# Altium footprint library qfn.PcbLib: 13 footprints
Each footprint in its own frame and in the unit in brackets; x right, y up, seen from the top. Pads: shape width x height; smd on the part's side, far side on the other; paste and mask are expansions set on the pad; w line width, h text height; cw(c..) or ccw(c..) is an arc to the next point about the centre after c.
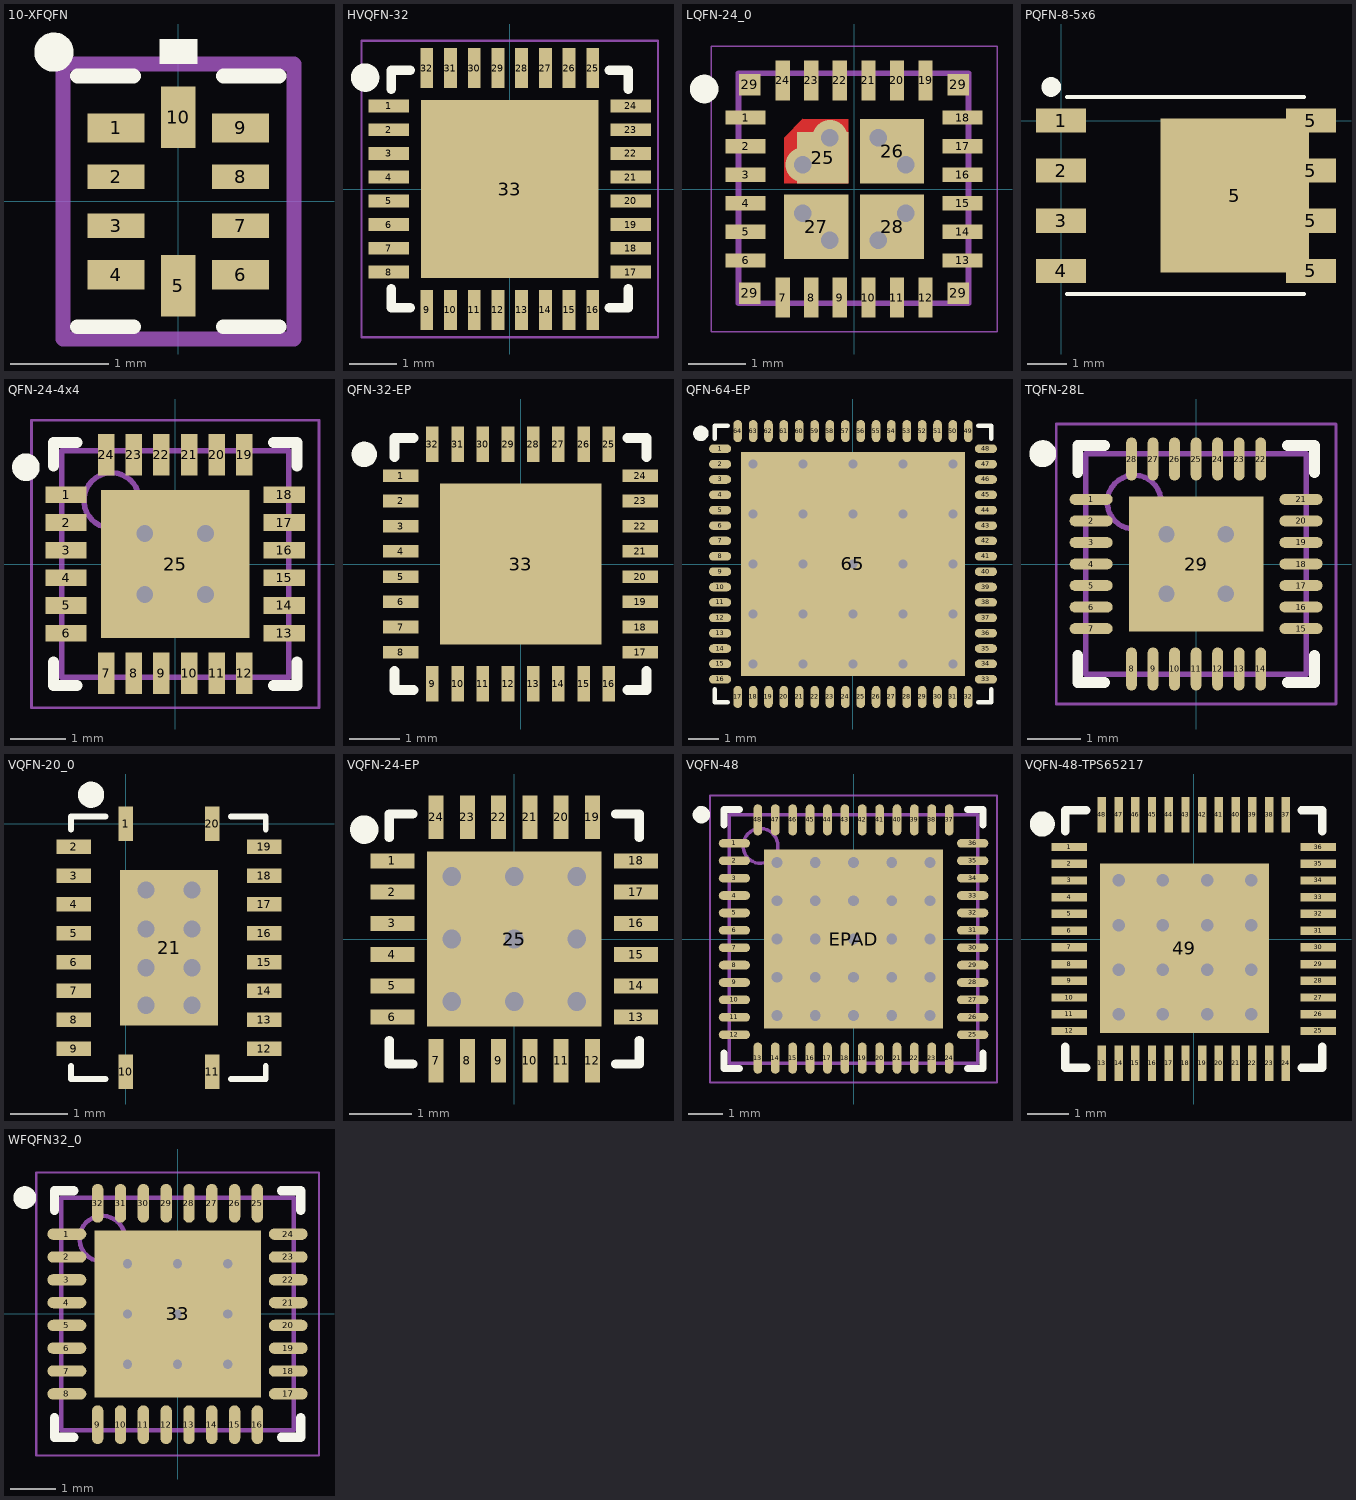
[diagram p0: the footprints below, top view; thin cyan lines are the x and y axes]

## 10-XFQFN [mm]
pads (10):
  rect 0.58x0.3 smd paste-0.15 mask+0.05: 1(-0.635,0.75) 4(-0.635,-0.75) 6(0.635,-0.75) 9(0.635,0.75)
  rect 0.58x0.25 smd mask+0.05: 2(-0.635,0.25) 3(-0.635,-0.25) 7(0.635,-0.25) 8(0.635,0.25)
  rect 0.35x0.63 smd mask+0.05: 5(0,-0.86) 10(0,0.86)
Top Overlay:
  circle w0.2: c-1.27,1.524 r0.1
  region: 0.191,1.404 -0.191,1.404 -0.191,1.658 0.191,1.658
  lines w0.152: -1.029,-1.279 -0.459,-1.279 ; -1.029,1.279 -0.459,1.279 ; 0.459,-1.279 1.029,-1.279 ; 0.459,1.279 1.029,1.279
Top Paste:
  region: -0.37,0.875 -0.9,0.875 -0.9,0.625 -0.37,0.625
  region: -0.37,0.375 -0.9,0.375 -0.9,0.125 -0.37,0.125
  region: -0.37,-0.125 -0.9,-0.125 -0.9,-0.375 -0.37,-0.375
  region: -0.37,-0.625 -0.9,-0.625 -0.9,-0.875 -0.37,-0.875
  region: 0.125,-0.595 -0.125,-0.595 -0.125,-1.125 0.125,-1.125
  region: 0.9,-0.625 0.37,-0.625 0.37,-0.875 0.9,-0.875
  region: 0.9,-0.125 0.37,-0.125 0.37,-0.375 0.9,-0.375
  region: 0.9,0.375 0.37,0.375 0.37,0.125 0.9,0.125
  region: 0.9,0.875 0.37,0.875 0.37,0.625 0.9,0.625
  region: 0.125,1.125 -0.125,1.125 -0.125,0.595 0.125,0.595
Top Solder:
  region: 0.975,0.45 0.295,0.45 0.295,0.05 0.975,0.05
  region: -0.295,0.95 -0.975,0.95 -0.975,0.55 -0.295,0.55
  region: -0.295,0.45 -0.975,0.45 -0.975,0.05 -0.295,0.05
  region: -0.295,-0.05 -0.975,-0.05 -0.975,-0.45 -0.295,-0.45
  region: -0.295,-0.55 -0.975,-0.55 -0.975,-0.95 -0.295,-0.95
  region: 0.2,-0.52 -0.2,-0.52 -0.2,-1.2 0.2,-1.2
  region: 0.975,-0.55 0.295,-0.55 0.295,-0.95 0.975,-0.95
  region: 0.975,-0.05 0.295,-0.05 0.295,-0.45 0.975,-0.45
  region: 0.975,0.95 0.295,0.95 0.295,0.55 0.975,0.55
  region: 0.2,1.2 -0.2,1.2 -0.2,0.52 0.2,0.52
Mechanical 15:
  lines w0.152: -1.179,-1.404 -1.179,1.404 1.179,1.404 1.179,-1.404 -1.179,-1.404
3D body "RUG0010A.stp": height 0.4, standoff 0, extent -0.75,-1 0.75,1

## HVQFN-32 [mm]
pads (33):
  rect 0.85x0.27 smd mask+0.05: 1(-2.55,1.75) 2(-2.55,1.25) 3(-2.55,0.75) 4(-2.55,0.25) 5(-2.55,-0.25) 6(-2.55,-0.75) 7(-2.55,-1.25) 8(-2.55,-1.75) 17(2.55,-1.75) 18(2.55,-1.25) 19(2.55,-0.75) 20(2.55,-0.25) 21(2.55,0.25) 22(2.55,0.75) 23(2.55,1.25) 24(2.55,1.75)
  rect 0.27x0.85 smd mask+0.05: 9(-1.75,-2.55) 10(-1.25,-2.55) 11(-0.75,-2.55) 12(-0.25,-2.55) 13(0.25,-2.55) 14(0.75,-2.55) 15(1.25,-2.55) 16(1.75,-2.55) 25(1.75,2.55) 26(1.25,2.55) 27(0.75,2.55) 28(0.25,2.55) 29(-0.25,2.55) 30(-0.75,2.55) 31(-1.25,2.55) 32(-1.75,2.55)
  rect 3.75x3.75 smd mask+0.075: 33(0,0)
Top Overlay:
  circle w0.3: c-3.05,2.35 r0.15
  lines w0.2: -2.5,-2.1 -2.5,-2.5 -2.1,-2.5 ; -2.5,2.1 -2.5,2.5 -2.1,2.5 ; 2.1,-2.5 2.5,-2.5 2.5,-2.1 ; 2.1,2.5 2.5,2.5 2.5,2.1
Mechanical 15:
  lines w0.05: -0.25,0 0.25,0 ; 0,-0.25 0,0.25 ; -3.125,-3.125 3.125,-3.125 3.125,3.125 -3.125,3.125 -3.125,-3.125
3D body: height 0.85, standoff 0, extent -2.5,-2.5 2.5,2.5

## LQFN-24_0 [mm]
pads (32):
  rect 0.7x0.25 smd mask+0.05: 1(-1.9,1.25) 2(-1.9,0.75) 3(-1.9,0.25) 4(-1.9,-0.25) 5(-1.9,-0.75) 6(-1.9,-1.25) 13(1.9,-1.25) 14(1.9,-0.75) 15(1.9,-0.25) 16(1.9,0.25) 17(1.9,0.75) 18(1.9,1.25)
  rect 0.25x0.7 smd mask+0.05: 7(-1.25,-1.9) 8(-0.75,-1.9) 9(-0.25,-1.9) 10(0.25,-1.9) 11(0.75,-1.9) 12(1.25,-1.9) 19(1.25,1.9) 20(0.75,1.9) 21(0.25,1.9) 22(-0.25,1.9) 23(-0.75,1.9) 24(-1.25,1.9)
  rect 0.9x0.9 smd mask+0: 25(-0.55,0.55)
  rect 1.125x1.125 smd: 26(0.663,0.663) 27(-0.663,-0.663) 28(0.663,-0.663)
  rect 0.375x0.375 smd mask+0.05: 29(-1.825,-1.825) 29(-1.825,1.825) 29(1.825,-1.825) 29(1.825,1.825)
via -0.9,0.425 diameter 0.61 hole 0.305
via -0.425,0.9 diameter 0.61 hole 0.305
via 0.9,0.425 diameter 0.61 hole 0.305
via -0.9,-0.425 diameter 0.61 hole 0.305
via -0.425,-0.9 diameter 0.61 hole 0.305
via 0.425,-0.9 diameter 0.61 hole 0.305
via 0.9,-0.425 diameter 0.61 hole 0.305
via 0.425,0.9 diameter 0.61 hole 0.305
Top Layer:
  region: -1.225,0.1 -0.1,0.1 -0.1,1.225 -0.9,1.225 -1.225,0.9
Top Overlay:
  circle w0.25: c-2.625,1.75 r0.125
Mechanical 13:
  lines w0.1: -2.025,2 -2.025,-2 2,-2 2,2.025 -2.025,2.025
Mechanical 15:
  lines w0.025: -2.5,-2.5 -2.5,2.5 2.5,2.5 2.5,-2.5 -2.5,-2.5
3D body: height 0.94, standoff 0, extent -2.013,-2.013 2.013,2.013

## PQFN-8-5x6 [mm]
pads (9):
  rect 1.27x0.61 smd: 1(0,0) 2(0,-1.27) 3(0,-2.54) 4(0,-3.81) 5(6.33,-3.81) 5(6.33,-2.54) 5(6.33,-1.27) 5(6.33,0)
  rect 3.75x3.91 smd: 5(4.4,-1.9)
Top Overlay:
  circle w0.25: c-0.25,0.85 r0.125
  lines w0.1: 0.15,-4.4 6.15,-4.4 ; 0.15,0.6 6.15,0.6
3D body: height 1.1, standoff 0, extent 0.15,-4.4 6.15,0.6

## QFN-24-4x4 [mm] "QFN, 24-Leads, Body 4.00x4.00mm, Pitch 0.50mm, Thermal Pad 2.68x2.68mm, IPC Medium Density"
height 0.8
pads (25):
  rect 0.75x0.3 smd mask+0.05: 1(-1.975,1.25) 2(-1.975,0.75) 3(-1.975,0.25) 4(-1.975,-0.25) 5(-1.975,-0.75) 6(-1.975,-1.25) 13(1.975,-1.25) 14(1.975,-0.75) 15(1.975,-0.25) 16(1.975,0.25) 17(1.975,0.75) 18(1.975,1.25)
  rect 0.3x0.75 smd mask+0.05: 7(-1.25,-1.975) 8(-0.75,-1.975) 9(-0.25,-1.975) 10(0.25,-1.975) 11(0.75,-1.975) 12(1.25,-1.975) 19(1.25,1.975) 20(0.75,1.975) 21(0.25,1.975) 22(-0.25,1.975) 23(-0.75,1.975) 24(-1.25,1.975)
  rect 2.68x2.68 smd: 25(0,0)
via 0.55,-0.55 diameter 0.61 hole 0.305
via -0.55,-0.55 diameter 0.61 hole 0.305
via 0.55,0.55 diameter 0.61 hole 0.305
via -0.55,0.55 diameter 0.61 hole 0.305
Top Overlay:
  circle w0.25: c-2.7,1.75 r0.125
  lines w0.2: -2.2,-1.775 -2.2,-2.2 -1.775,-2.2 ; -2.2,1.775 -2.2,2.2 -1.775,2.2 ; 1.775,-2.2 2.2,-2.2 2.2,-1.775 ; 1.775,2.2 2.2,2.2 2.2,1.775
Mechanical 13:
  circle w0.1: c-1.15,1.15 r0.5
  lines w0.1: -2.05,-2.05 2.05,-2.05 2.05,2.05 -2.05,2.05 -2.05,-2.05
Mechanical 15:
  lines w0.05: -2.6,-2.6 2.6,-2.6 2.6,2.6 -2.6,2.6 -2.6,-2.6
  lines w0.1: -0.5,0 0.5,0 ; 0,-0.5 0,0.5
3D body: height 0.8, standoff 0, extent -2.05,-2.05 2.05,2.05

## QFN-32-EP [mm]
pads (33):
  rect 0.7x0.25 smd mask+0.05: 1(-2.375,1.75) 2(-2.375,1.25) 3(-2.375,0.75) 4(-2.375,0.25) 5(-2.375,-0.25) 6(-2.375,-0.75) 7(-2.375,-1.25) 8(-2.375,-1.75) 17(2.375,-1.75) 18(2.375,-1.25) 19(2.375,-0.75) 20(2.375,-0.25) 21(2.375,0.25) 22(2.375,0.75) 23(2.375,1.25) 24(2.375,1.75)
  rect 0.25x0.7 smd mask+0.05: 9(-1.75,-2.375) 10(-1.25,-2.375) 11(-0.75,-2.375) 12(-0.25,-2.375) 13(0.25,-2.375) 14(0.75,-2.375) 15(1.25,-2.375) 16(1.75,-2.375) 25(1.75,2.375) 26(1.25,2.375) 27(0.75,2.375) 28(0.25,2.375) 29(-0.25,2.375) 30(-0.75,2.375) 31(-1.25,2.375) 32(-1.75,2.375)
  rect 3.2x3.2 smd: 33(0,0)
Top Overlay:
  circle w0.254: c-3.1,2.175 r0.125
  lines w0.2: -2.5,-2.125 -2.5,-2.5 -2.125,-2.5 ; -2.5,2.125 -2.5,2.5 -2.125,2.5 ; 2.125,-2.5 2.5,-2.5 2.5,-2.125 ; 2.125,2.5 2.5,2.5 2.5,2.125

## QFN-64-EP [mm]
pads (65):
  oval 0.72x0.28 smd mask+0.05: 1(-4.325,3.75) 2(-4.325,3.25) 3(-4.325,2.75) 4(-4.325,2.25) 5(-4.325,1.75) 6(-4.325,1.25) 7(-4.325,0.75) 8(-4.325,0.25) 9(-4.325,-0.25) 10(-4.325,-0.75) 11(-4.325,-1.25) 12(-4.325,-1.75) 13(-4.325,-2.25) 14(-4.325,-2.75) 15(-4.325,-3.25) 16(-4.325,-3.75) 33(4.325,-3.75) 34(4.325,-3.25) 35(4.325,-2.75) 36(4.325,-2.25) 37(4.325,-1.75) 38(4.325,-1.25) 39(4.325,-0.75) 40(4.325,-0.25) 41(4.325,0.25) 42(4.325,0.75) 43(4.325,1.25) 44(4.325,1.75) 45(4.325,2.25) 46(4.325,2.75) 47(4.325,3.25) 48(4.325,3.75)
  oval 0.28x0.72 smd mask+0.05: 17(-3.75,-4.325) 18(-3.25,-4.325) 19(-2.75,-4.325) 20(-2.25,-4.325) 21(-1.75,-4.325) 22(-1.25,-4.325) 23(-0.75,-4.325) 24(-0.25,-4.325) 25(0.25,-4.325) 26(0.75,-4.325) 27(1.25,-4.325) 28(1.75,-4.325) 29(2.25,-4.325) 30(2.75,-4.325) 31(3.25,-4.325) 32(3.75,-4.325) 49(3.75,4.325) 50(3.25,4.325) 51(2.75,4.325) 52(2.25,4.325) 53(1.75,4.325) 54(1.25,4.325) 55(0.75,4.325) 56(0.25,4.325) 57(-0.25,4.325) 58(-0.75,4.325) 59(-1.25,4.325) 60(-1.75,4.325) 61(-2.25,4.325) 62(-2.75,4.325) 63(-3.25,4.325) 64(-3.75,4.325)
  rect 7.3x7.3 smd: 65(0,0)
via 0,1.625 diameter 0.6 hole 0.3
via -1.625,1.625 diameter 0.6 hole 0.3
via -1.625,0 diameter 0.6 hole 0.3
via -1.625,-1.625 diameter 0.6 hole 0.3
via 0,0 diameter 0.6 hole 0.3
via 0,-1.625 diameter 0.6 hole 0.3
via 1.625,-1.625 diameter 0.6 hole 0.3
via 1.625,0 diameter 0.6 hole 0.3
via 1.625,1.625 diameter 0.6 hole 0.3
via -3.25,-1.625 diameter 0.6 hole 0.3
via -3.25,1.625 diameter 0.6 hole 0.3
via -1.625,3.25 diameter 0.6 hole 0.3
via 1.625,3.25 diameter 0.6 hole 0.3
via 3.25,1.625 diameter 0.6 hole 0.3
via 3.25,-1.625 diameter 0.6 hole 0.3
via 1.625,-3.25 diameter 0.6 hole 0.3
via -1.625,-3.25 diameter 0.6 hole 0.3
via 0,-3.25 diameter 0.6 hole 0.3
via 0,3.25 diameter 0.6 hole 0.3
via 3.25,0 diameter 0.6 hole 0.3
via -3.25,0 diameter 0.6 hole 0.3
via -3.25,-3.25 diameter 0.6 hole 0.3
via 3.25,-3.25 diameter 0.6 hole 0.3
via 3.25,3.25 diameter 0.6 hole 0.3
via -3.25,3.25 diameter 0.6 hole 0.3
Top Overlay:
  circle w0.25: c-4.95,4.25 r0.125
  lines w0.15: -4.5,-4.075 -4.5,-4.5 -4.075,-4.5 ; -4.5,4.075 -4.5,4.5 -4.075,4.5 ; 4.075,-4.5 4.5,-4.5 4.5,-4.075 ; 4.075,4.5 4.5,4.5 4.5,4.075
3D body: height 0.85, standoff 0, extent -4.5,-4.5 4.5,4.5

## TQFN-28L [mm] "QFN, 28-Leads, Body 4.00x4.00mm, Pitch 0.40mm, Thermal Pad 2.70x2.70mm, IPC Medium Density"
height 0.8
pads (29):
  oval 0.8x0.2 smd: 1(-1.95,1.2) 2(-1.95,0.8) 3(-1.95,0.4) 4(-1.95,0) 5(-1.95,-0.4) 6(-1.95,-0.8) 7(-1.95,-1.2) 15(1.95,-1.2) 16(1.95,-0.8) 17(1.95,-0.4) 18(1.95,0) 19(1.95,0.4) 20(1.95,0.8) 21(1.95,1.2)
  oval 0.2x0.8 smd: 8(-1.2,-1.95) 9(-0.8,-1.95) 10(-0.4,-1.95) 11(0,-1.95) 12(0.4,-1.95) 13(0.8,-1.95) 14(1.2,-1.95) 22(1.2,1.95) 23(0.8,1.95) 24(0.4,1.95) 25(0,1.95) 26(-0.4,1.95) 27(-0.8,1.95) 28(-1.2,1.95)
  rect 2.5x2.5 smd: 29(0,0)
via 0.55,-0.55 diameter 0.61 hole 0.305
via -0.55,-0.55 diameter 0.61 hole 0.305
via 0.55,0.55 diameter 0.61 hole 0.305
via -0.55,0.55 diameter 0.61 hole 0.305
Top Overlay:
  circle w0.25: c-2.85,2.05 r0.125
  lines w0.2: -2.2,-1.7 -2.2,-2.2 -1.7,-2.2 ; -2.2,1.7 -2.2,2.2 -1.7,2.2 ; 1.7,-2.2 2.2,-2.2 2.2,-1.7 ; 1.7,2.2 2.2,2.2 2.2,1.7
Mechanical 13:
  circle w0.1: c-1.15,1.15 r0.5
  lines w0.1: -2.05,-2.05 2.05,-2.05 2.05,2.05 -2.05,2.05 -2.05,-2.05
Mechanical 15:
  lines w0.05: -2.6,-2.6 2.6,-2.6 2.6,2.6 -2.6,2.6 -2.6,-2.6
  lines w0.1: -0.5,0 0.5,0 ; 0,-0.5 0,0.5
3D body: height 0.8, standoff 0, extent -2.05,-2.05 2.05,2.05

## VQFN-20_0 [mm]
pads (21):
  rect 0.25x0.6 smd mask+0.07: 1(0,0) 10(0,-4.3) 11(1.5,-4.3) 20(1.5,0)
  rect 0.6x0.25 smd mask+0.07: 2(-0.9,-0.4) 3(-0.9,-0.9) 4(-0.9,-1.4) 5(-0.9,-1.9) 6(-0.9,-2.4) 7(-0.9,-2.9) 8(-0.9,-3.4) 9(-0.9,-3.9) 12(2.4,-3.9) 13(2.4,-3.4) 14(2.4,-2.9) 15(2.4,-2.4) 16(2.4,-1.9) 17(2.4,-1.4) 18(2.4,-0.9) 19(2.4,-0.4)
  rect 1.7x2.7 smd mask+0.07: 21(0.75,-2.15)
via 0.35,-1.15 diameter 0.55 hole 0.3
via 0.35,-1.825 diameter 0.55 hole 0.3
via 0.35,-2.5 diameter 0.55 hole 0.3
via 1.15,-3.15 diameter 0.55 hole 0.3
via 0.35,-3.15 diameter 0.55 hole 0.3
via 1.15,-2.5 diameter 0.55 hole 0.3
via 1.15,-1.825 diameter 0.55 hole 0.3
via 1.15,-1.15 diameter 0.55 hole 0.3
Top Overlay:
  circle w0.254: c-0.6,0.5 r0.1
  lines w0.1: -0.95,-4.2 -0.95,-4.425 -0.35,-4.425 ; -0.95,-0.1 -0.95,0.125 -0.35,0.125 ; 1.825,-4.425 2.425,-4.425 2.425,-4.2 ; 1.825,0.125 2.425,0.125 2.425,-0.1

## VQFN-24-EP [mm]
pads (25):
  rect 0.7x0.24 smd mask+0.065: 1(-1.95,1.25) 2(-1.95,0.75) 3(-1.95,0.25) 4(-1.95,-0.25) 5(-1.95,-0.75) 6(-1.95,-1.25) 13(1.95,-1.25) 14(1.95,-0.75) 15(1.95,-0.25) 16(1.95,0.25) 17(1.95,0.75) 18(1.95,1.25)
  rect 0.24x0.7 smd mask+0.065: 7(-1.25,-1.95) 8(-0.75,-1.95) 9(-0.25,-1.95) 10(0.25,-1.95) 11(0.75,-1.95) 12(1.25,-1.95) 19(1.25,1.95) 20(0.75,1.95) 21(0.25,1.95) 22(-0.25,1.95) 23(-0.75,1.95) 24(-1.25,1.95)
  rect 2.8x2.8 smd mask+0.065: 25(0,0)
via 0,1 diameter 0.5 hole 0.3
via 0,0 diameter 0.5 hole 0.3
via 1,0 diameter 0.5 hole 0.3
via 0,-1 diameter 0.5 hole 0.3
via -1,0 diameter 0.5 hole 0.3
via 1,1 diameter 0.5 hole 0.3
via -1,1 diameter 0.5 hole 0.3
via -1,-1 diameter 0.5 hole 0.3
via 1,-1 diameter 0.5 hole 0.3
Top Overlay:
  circle w0.254: c-2.4,1.75 r0.1
  lines w0.15: -2,-1.625 -2,-2 -1.625,-2 ; -2,1.625 -2,2 -1.625,2 ; 1.625,-2 2,-2 2,-1.625 ; 1.625,2 2,2 2,1.625
3D body: height 1, standoff 0, extent -2,-2 2,2

## VQFN-48 [mm] "QFN, 48-Leads, Body 7.00x7.00mm, Pitch 0.50mm, Thermal Pad 5.15x5.15mm, IPC Medium Density"
height 1
pads (57):
  oval 0.9x0.25 smd: 1(-3.425,2.75) 2(-3.425,2.25) 3(-3.425,1.75) 4(-3.425,1.25) 5(-3.425,0.75) 6(-3.425,0.25) 7(-3.425,-0.25) 8(-3.425,-0.75) 9(-3.425,-1.25) 10(-3.425,-1.75) 11(-3.425,-2.25) 12(-3.425,-2.75) 25(3.425,-2.75) 26(3.425,-2.25) 27(3.425,-1.75) 28(3.425,-1.25) 29(3.425,-0.75) 30(3.425,-0.25) 31(3.425,0.25) 32(3.425,0.75) 33(3.425,1.25) 34(3.425,1.75) 35(3.425,2.25) 36(3.425,2.75)
  oval 0.25x0.9 smd: 13(-2.75,-3.425) 14(-2.25,-3.425) 15(-1.75,-3.425) 16(-1.25,-3.425) 17(-0.75,-3.425) 18(-0.25,-3.425) 19(0.25,-3.425) 20(0.75,-3.425) 21(1.25,-3.425) 22(1.75,-3.425) 23(2.25,-3.425) 24(2.75,-3.425) 37(2.75,3.425) 38(2.25,3.425) 39(1.75,3.425) 40(1.25,3.425) 41(0.75,3.425) 42(0.25,3.425) 43(-0.25,3.425) 44(-0.75,3.425) 45(-1.25,3.425) 46(-1.75,3.425) 47(-2.25,3.425) 48(-2.75,3.425)
  rect 0x0 smd: 49(-0.85,0) 50(-0.35,0) 51(0,0.85) 52(0,0.35) 53(0.85,0) 54(0.35,0) 55(0,-0.85) 56(0,-0.35)
  rect 5.15x5.15 smd: EPAD(0,0)
via 2.2,-2.2 diameter 0.61 hole 0.305
via 1.1,-2.2 diameter 0.61 hole 0.305
via 0,-2.2 diameter 0.61 hole 0.305
via -1.1,-2.2 diameter 0.61 hole 0.305
via -2.2,-2.2 diameter 0.61 hole 0.305
via 2.2,-1.1 diameter 0.61 hole 0.305
via 1.1,-1.1 diameter 0.61 hole 0.305
via 0,-1.1 diameter 0.61 hole 0.305
via -1.1,-1.1 diameter 0.61 hole 0.305
via -2.2,-1.1 diameter 0.61 hole 0.305
via 2.2,0 diameter 0.61 hole 0.305
via 1.1,0 diameter 0.61 hole 0.305
via 0,0 diameter 0.61 hole 0.305
via -1.1,0 diameter 0.61 hole 0.305
via -2.2,0 diameter 0.61 hole 0.305
via 2.2,1.1 diameter 0.61 hole 0.305
via 1.1,1.1 diameter 0.61 hole 0.305
via 0,1.1 diameter 0.61 hole 0.305
via -1.1,1.1 diameter 0.61 hole 0.305
via -2.2,1.1 diameter 0.61 hole 0.305
via 2.2,2.2 diameter 0.61 hole 0.305
via 1.1,2.2 diameter 0.61 hole 0.305
via 0,2.2 diameter 0.61 hole 0.305
via -1.1,2.2 diameter 0.61 hole 0.305
via -2.2,2.2 diameter 0.61 hole 0.305
Top Overlay:
  circle w0.25: c-4.375,3.575 r0.125
  lines w0.2: -3.725,-3.275 -3.725,-3.725 -3.275,-3.725 ; -3.725,3.275 -3.725,3.725 -3.275,3.725 ; 3.275,-3.725 3.725,-3.725 3.725,-3.275 ; 3.275,3.725 3.725,3.725 3.725,3.275
Mechanical 13:
  circle w0.1: c-2.675,2.675 r0.5
  lines w0.1: -3.575,-3.575 3.575,-3.575 3.575,3.575 -3.575,3.575 -3.575,-3.575
Mechanical 15:
  lines w0.05: -4.125,-4.125 4.125,-4.125 4.125,4.125 -4.125,4.125 -4.125,-4.125
  lines w0.1: -0.5,0 0.5,0 ; 0,-0.5 0,0.5
3D body: height 1, standoff 0.08, extent -3.575,-3.575 3.575,3.575

## VQFN-48-TPS65217 [mm]
pads (49):
  rect 0.85x0.2 smd mask+0.05: 1(-2.975,2.2) 2(-2.975,1.8) 3(-2.975,1.4) 4(-2.975,1) 5(-2.975,0.6) 6(-2.975,0.2) 7(-2.975,-0.2) 8(-2.975,-0.6) 9(-2.975,-1) 10(-2.975,-1.4) 11(-2.975,-1.8) 12(-2.975,-2.2) 25(2.975,-2.2) 26(2.975,-1.8) 27(2.975,-1.4) 28(2.975,-1) 29(2.975,-0.6) 30(2.975,-0.2) 31(2.975,0.2) 32(2.975,0.6) 33(2.975,1) 34(2.975,1.4) 35(2.975,1.8) 36(2.975,2.2)
  rect 0.2x0.85 smd mask+0.05: 13(-2.2,-2.975) 14(-1.8,-2.975) 15(-1.4,-2.975) 16(-1,-2.975) 17(-0.6,-2.975) 18(-0.2,-2.975) 19(0.2,-2.975) 20(0.6,-2.975) 21(1,-2.975) 22(1.4,-2.975) 23(1.8,-2.975) 24(2.2,-2.975) 37(2.2,2.975) 38(1.8,2.975) 39(1.4,2.975) 40(1,2.975) 41(0.6,2.975) 42(0.2,2.975) 43(-0.2,2.975) 44(-0.6,2.975) 45(-1,2.975) 46(-1.4,2.975) 47(-1.8,2.975) 48(-2.2,2.975)
  rect 4.05x4.05 smd mask+0.075: 49(-0.225,-0.225)
via -1.8,1.4 diameter 0.6 hole 0.3
via -1.8,-1.8 diameter 0.6 hole 0.3
via 1.375,1.4 diameter 0.6 hole 0.3
via 1.375,-1.8 diameter 0.6 hole 0.3
via -1.8,0.333 diameter 0.6 hole 0.3
via -1.8,-0.733 diameter 0.6 hole 0.3
via 1.375,0.333 diameter 0.6 hole 0.3
via 1.375,-0.733 diameter 0.6 hole 0.3
via 0.317,1.4 diameter 0.6 hole 0.3
via 0.317,-1.8 diameter 0.6 hole 0.3
via 0.317,0.333 diameter 0.6 hole 0.3
via 0.317,-0.733 diameter 0.6 hole 0.3
via -0.742,1.4 diameter 0.6 hole 0.3
via -0.742,-1.8 diameter 0.6 hole 0.3
via -0.742,0.333 diameter 0.6 hole 0.3
via -0.742,-0.733 diameter 0.6 hole 0.3
Top Overlay:
  circle w0.3: c-3.625,2.75 r0.15
  lines w0.2: -3.075,-2.575 -3.075,-3.075 -2.575,-3.075 ; -3.075,2.575 -3.075,3.075 -2.575,3.075 ; 2.575,-3.075 3.075,-3.075 3.075,-2.575 ; 2.575,3.075 3.075,3.075 3.075,2.575

## WFQFN32_0 [mm] "QFN, 32-Leads, Body 5.00x5.00mm, Pitch 0.50mm, Thermal Pad 3.65x3.65mm, IPC Medium Density"
height 0.8
pads (33):
  oval 0.85x0.25 smd: 1(-2.425,1.75) 2(-2.425,1.25) 3(-2.425,0.75) 4(-2.425,0.25) 5(-2.425,-0.25) 6(-2.425,-0.75) 7(-2.425,-1.25) 8(-2.425,-1.75) 17(2.425,-1.75) 18(2.425,-1.25) 19(2.425,-0.75) 20(2.425,-0.25) 21(2.425,0.25) 22(2.425,0.75) 23(2.425,1.25) 24(2.425,1.75)
  oval 0.25x0.85 smd: 9(-1.75,-2.425) 10(-1.25,-2.425) 11(-0.75,-2.425) 12(-0.25,-2.425) 13(0.25,-2.425) 14(0.75,-2.425) 15(1.25,-2.425) 16(1.75,-2.425) 25(1.75,2.425) 26(1.25,2.425) 27(0.75,2.425) 28(0.25,2.425) 29(-0.25,2.425) 30(-0.75,2.425) 31(-1.25,2.425) 32(-1.75,2.425)
  rect 3.65x3.65 smd: 33(0,0)
via 1.1,-1.1 diameter 0.5 hole 0.2
via 0,-1.1 diameter 0.5 hole 0.2
via -1.1,-1.1 diameter 0.5 hole 0.2
via 1.1,0 diameter 0.5 hole 0.2
via 0,0 diameter 0.5 hole 0.2
via -1.1,0 diameter 0.5 hole 0.2
via 1.1,1.1 diameter 0.5 hole 0.2
via 0,1.1 diameter 0.5 hole 0.2
via -1.1,1.1 diameter 0.5 hole 0.2
Top Overlay:
  circle w0.25: c-3.35,2.55 r0.125
  lines w0.2: -2.7,-2.275 -2.7,-2.7 -2.275,-2.7 ; -2.7,2.275 -2.7,2.7 -2.275,2.7 ; 2.275,-2.7 2.7,-2.7 2.7,-2.275 ; 2.275,2.7 2.7,2.7 2.7,2.275
Mechanical 13:
  circle w0.1: c-1.65,1.65 r0.5
  lines w0.1: -2.55,-2.55 2.55,-2.55 2.55,2.55 -2.55,2.55 -2.55,-2.55
Mechanical 15:
  lines w0.05: -3.1,-3.1 3.1,-3.1 3.1,3.1 -3.1,3.1 -3.1,-3.1
  lines w0.1: -0.5,0 0.5,0 ; 0,-0.5 0,0.5
3D body: height 0.8, standoff 0.01, extent -2.55,-2.55 2.55,2.55